# Altium footprint library W25Q32JVSSIQ.PcbLib: 3 footprints
Each footprint in its own frame and in the unit in brackets; x right, y up, seen from the top. Pads: shape width x height; smd on the part's side, far side on the other; paste and mask are expansions set on the pad; w line width, h text height; cw(c..) or ccw(c..) is an arc to the next point about the centre after c.
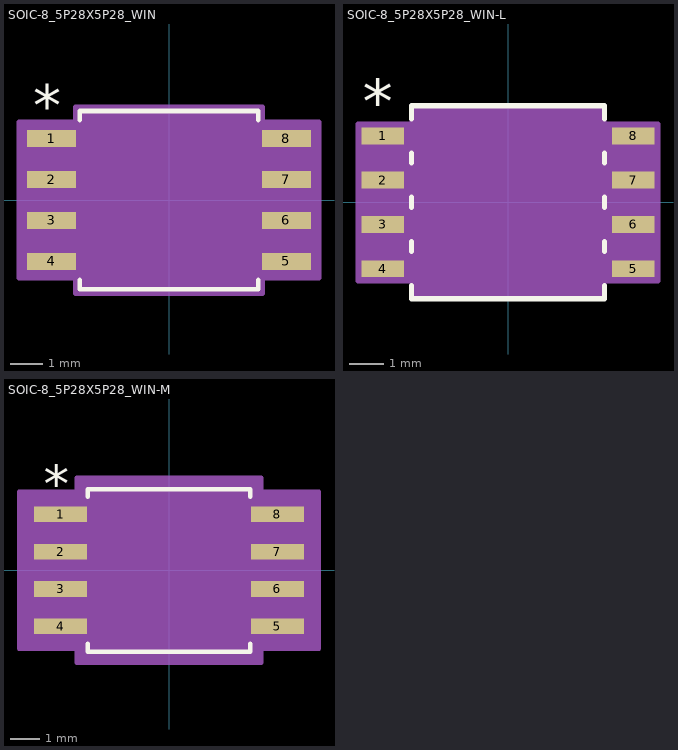
[diagram p0: the footprints below, top view; thin cyan lines are the x and y axes]

## SOIC-8_5P28X5P28_WIN [mil]
pads (8):
  rect 59.56x20.97 smd paste+0 mask+0: 1(-143.5,75) 2(-143.5,25) 3(-143.5,-25) 4(-143.5,-75) 5(143.5,-75) 6(143.5,-25) 7(143.5,25) 8(143.5,75)
Top Overlay:
  lines w6: -109,-97.7 -109,-109 109,-109 109,-97.7 ; -109,97.7 -109,109 109,109 109,97.7
  text ".Designator" at -137.5,-25 h50
  text "*" at -166,90.97 h50
Mechanical 13:
  lines w1: -12,104 ccw(c0,104) 12,104 ; -159.5,-84.5 -159.5,-65.5 -104,-65.5 -104,-84.5 -159.5,-84.5 ; -159.5,-34.5 -159.5,-15.5 -104,-15.5 -104,-34.5 -159.5,-34.5 ; -159.5,15.5 -159.5,34.5 -104,34.5 -104,15.5 -159.5,15.5 ; -159.5,65.5 -159.5,84.5 -104,84.5 -104,65.5 -159.5,65.5 ; -104,-104 104,-104 104,104 -104,104 -104,-104 ; 104,-84.5 104,-65.5 159.5,-65.5 159.5,-84.5 104,-84.5 ; 104,-34.5 104,-15.5 159.5,-15.5 159.5,-34.5 104,-34.5 ; 104,15.5 104,34.5 159.5,34.5 159.5,15.5 104,15.5 ; 104,65.5 104,84.5 159.5,84.5 159.5,65.5 104,65.5
  text "*" at -101.5,51 h50
  text ".Designator" at -137.5,-25 h50
Mechanical 15:
  region: -114,-95.48 -183.28,-95.48 -183.28,95.48 -114,95.48 -114,114 114,114 114,95.48 183.28,95.48 183.28,-95.48 114,-95.48 114,-114 -114,-114
  lines w6: -183.28,-95.48 -183.28,95.48 -114,95.48 -114,114 114,114 114,95.48 183.28,95.48 183.28,-95.48 114,-95.48 114,-114 -114,-114 -114,-95.48 -183.28,-95.48
3D body "SOIC-8_5P28X5P28_WIN.step": height 85.12, standoff 0, extent -159.49,-104.02 159.49,104.02

## SOIC-8_5P28X5P28_WIN-L [mil]
pads (8):
  rect 47.75x19 smd paste+0 mask+0: 1(-141.53,75) 2(-141.53,25) 3(-141.53,-25) 4(-141.53,-75) 5(141.53,-75) 6(141.53,-25) 7(141.53,25) 8(141.53,75)
Top Overlay:
  lines w6: -109,-94.33 -109,-109 109,-109 109,-94.33 ; -109,-55.67 -109,-44.33 ; -109,-5.67 -109,5.67 ; -109,44.33 -109,55.67 ; -109,94.33 -109,109 109,109 109,94.33 ; 109,-55.67 109,-44.33 ; 109,-5.67 109,5.67 ; 109,44.33 109,55.67
  text ".Designator" at -137.5,-25 h50
  text "*" at -164.03,89 h50
Mechanical 13:
  lines w1: -12,104 ccw(c0,104) 12,104 ; -159.5,-84.5 -159.5,-65.5 -104,-65.5 -104,-84.5 -159.5,-84.5 ; -159.5,-34.5 -159.5,-15.5 -104,-15.5 -104,-34.5 -159.5,-34.5 ; -159.5,15.5 -159.5,34.5 -104,34.5 -104,15.5 -159.5,15.5 ; -159.5,65.5 -159.5,84.5 -104,84.5 -104,65.5 -159.5,65.5 ; -104,-104 104,-104 104,104 -104,104 -104,-104 ; 104,-84.5 104,-65.5 159.5,-65.5 159.5,-84.5 104,-84.5 ; 104,-34.5 104,-15.5 159.5,-15.5 159.5,-34.5 104,-34.5 ; 104,15.5 104,34.5 159.5,34.5 159.5,15.5 104,15.5 ; 104,65.5 104,84.5 159.5,84.5 159.5,65.5 104,65.5
  text "*" at -101.5,51 h50
  text ".Designator" at -137.5,-25 h50
Mechanical 15:
  region: -108,-88.5 -169.41,-88.5 -169.41,88.5 -108,88.5 -108,108 108,108 108,88.5 169.41,88.5 169.41,-88.5 108,-88.5 108,-108 -108,-108
  lines w6: -169.41,-88.5 -169.41,88.5 -108,88.5 -108,108 108,108 108,88.5 169.41,88.5 169.41,-88.5 108,-88.5 108,-108 -108,-108 -108,-88.5 -169.41,-88.5
3D body "SOIC-8_5P28X5P28_WIN.step": height 85.12, standoff 0, extent -159.49,-104.02 159.49,104.02

## SOIC-8_5P28X5P28_WIN-M [mil]
pads (8):
  rect 71.37x20.97 smd paste+0 mask+0: 1(-145.47,75) 2(-145.47,25) 3(-145.47,-25) 4(-145.47,-75) 5(145.47,-75) 6(145.47,-25) 7(145.47,25) 8(145.47,75)
Top Overlay:
  lines w6: -109,-98.56 -109,-109 109,-109 109,-98.56 ; -109,98.56 -109,109 109,109 109,98.56
  text ".Designator" at -137.5,-25 h50
  text "*" at -167.97,90.97 h50
Mechanical 13:
  lines w1: -12,104 ccw(c0,104) 12,104 ; -159.5,-84.5 -159.5,-65.5 -104,-65.5 -104,-84.5 -159.5,-84.5 ; -159.5,-34.5 -159.5,-15.5 -104,-15.5 -104,-34.5 -159.5,-34.5 ; -159.5,15.5 -159.5,34.5 -104,34.5 -104,15.5 -159.5,15.5 ; -159.5,65.5 -159.5,84.5 -104,84.5 -104,65.5 -159.5,65.5 ; -104,-104 104,-104 104,104 -104,104 -104,-104 ; 104,-84.5 104,-65.5 159.5,-65.5 159.5,-84.5 104,-84.5 ; 104,-34.5 104,-15.5 159.5,-15.5 159.5,-34.5 104,-34.5 ; 104,15.5 104,34.5 159.5,34.5 159.5,15.5 104,15.5 ; 104,65.5 104,84.5 159.5,84.5 159.5,65.5 104,65.5
  text "*" at -101.5,51 h50
  text ".Designator" at -137.5,-25 h50
Mechanical 15:
  region: -124,-105.48 -201.15,-105.48 -201.15,105.48 -124,105.48 -124,124 124,124 124,105.48 201.15,105.48 201.15,-105.48 124,-105.48 124,-124 -124,-124
  lines w6: -201.15,-105.48 -201.15,105.48 -124,105.48 -124,124 124,124 124,105.48 201.15,105.48 201.15,-105.48 124,-105.48 124,-124 -124,-124 -124,-105.48 -201.15,-105.48
3D body "SOIC-8_5P28X5P28_WIN.step": height 85.12, standoff 0, extent -159.49,-104.02 159.49,104.02